# Altium footprint library AXIAL_0.4_1.PcbLib: 1 footprints
Each footprint in its own frame and in the unit in brackets; x right, y up, seen from the top. Pads: shape width x height; smd on the part's side, far side on the other; paste and mask are expansions set on the pad; w line width, h text height; cw(c..) or ccw(c..) is an arc to the next point about the centre after c.
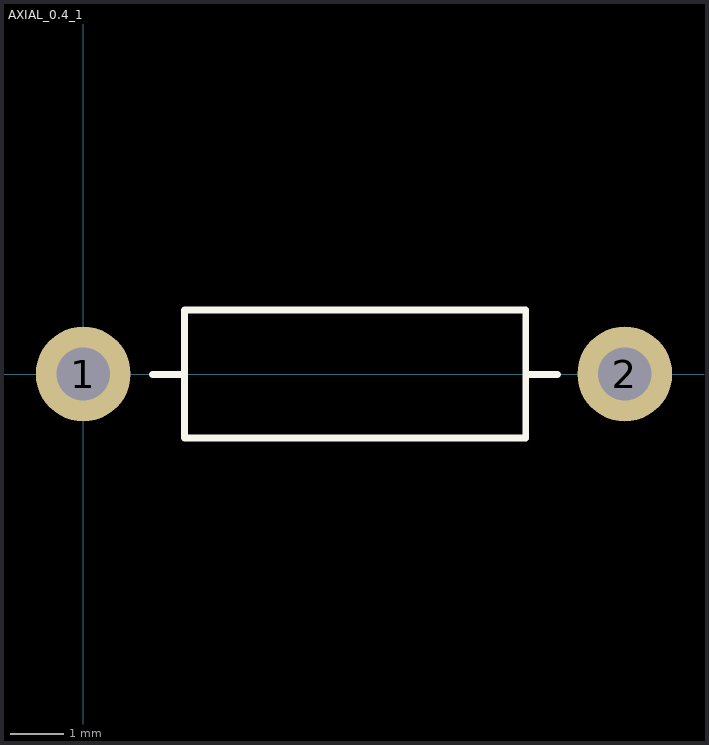
[diagram p0: the footprint, top view; thin cyan lines are the x and y axes]

## AXIAL_0.4_1 [mil] "Axial device, 0.4\" spacing, 0.6W"
pads (2):
  round 70 hole 39.37: 1(0,0) 2(400,0)
Top Overlay:
  lines w5: 51.18,-0.43 74.8,-0.43 ; 326.77,-0.43 350.39,-0.43 ; 74.8,-47.24 326.77,-47.24 326.77,47.24 74.8,47.24 74.8,-47.24
3D body "Resistor_0.4_0.6W.SLDPRT": height 102.27, standoff -64.96, extent -10.99,-49.21 412.58,48.96